# Altium integrated library Switch-ATE1D-2M3-10-Z.IntLib: 1 symbol
Pins are listed as number, name and electrical type; pins without a type are passive.

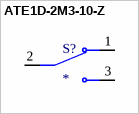
[diagram p0: symbol ATE1D-2M3-10-Z]

## ATE1D-2M3-10-Z
designator S?
Toggle Switch SPDT Through Hole; MF: Nidec Copal Electronics; MP: ATE1D-2M3-10-Z; Purchase-URL: https://pricing.snapeda.com/search/part/ATE1D-2M3-10-Z/?ref=eda; Package: None; Check_prices: https://www.snapeda.com/parts/ATE1D-2M3-10-Z/Nidec+Copal+Electronics/view-part/?ref=eda; Digi-Key_Part_Number: 563-1157-ND; Value: *; SnapEDA_Link: https://www.snapeda.com/parts/ATE1D-2M3-10-Z/Nidec+Copal+Electronics/view-part/?ref=snap
footprint SW_ATE1D-2M3-10-Z
pins: 1, 2, 3